# EAGLE library part PCM9211_PT_48 (library Texas Instruments)
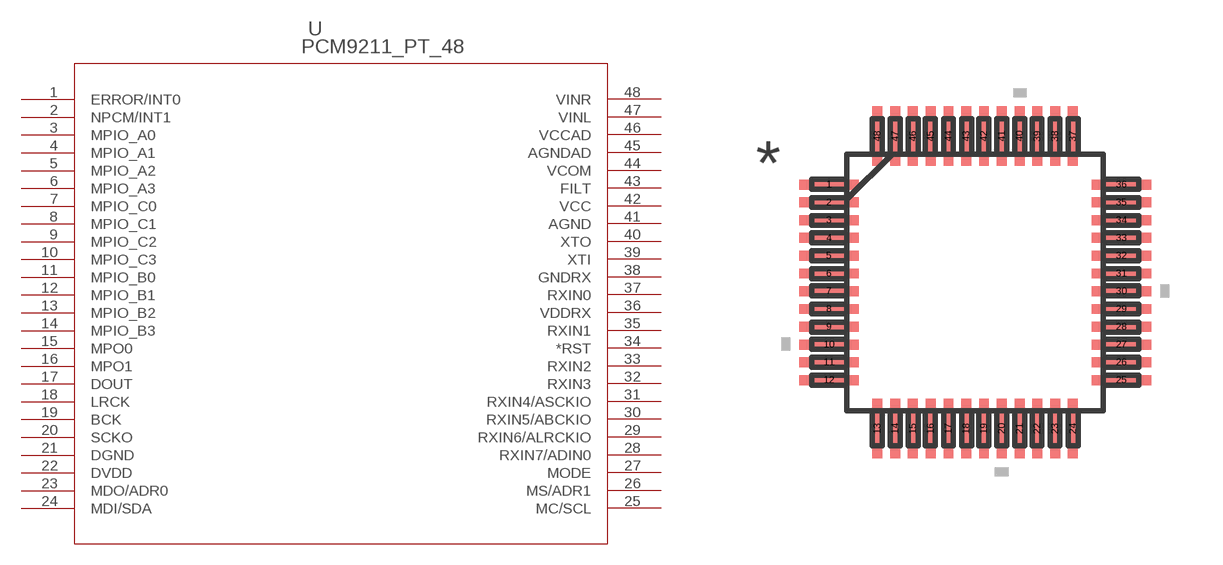
[diagram p12: symbol with the pads of PT48; footprint PT48]

Designator prefix U

## PCM9211_PT_48 (DATASHEETURL: http://www.ti.com/lit/gpn/PCM9211; DESCRIPTION: 216kHz Digital Audio Interface Transceiver (DIX) with Stereo ADC and Routing; FAMILY_NAME: DIGITAL AUDIO TRANSCEIVER; GENERIC_PART_NUMBER: PCM9211; INDUSTRY_STD_PKG_TYPE: LQFP; MANUFACTURER: Texas Instruments; MANUFACTURER_PART_NUMBER: pcm9211_pt_48; PACKAGE_DESIGNATOR: PT; PIN_COUNT: 48; VENDOR: Texas Instruments)  [PT48]
1  ERROR/INT0  out
2  NPCM/INT1  out
3  MPIO_A0
4  MPIO_A1
5  MPIO_A2
6  MPIO_A3
7  MPIO_C0
8  MPIO_C1
9  MPIO_C2
10  MPIO_C3
11  MPIO_B0
12  MPIO_B1
13  MPIO_B2
14  MPIO_B3
15  MPO0  out
16  MPO1  out
17  DOUT  out
18  LRCK  out
19  BCK  out
20  SCKO  out
21  DGND  pwr
22  DVDD  pwr
23  MDO/ADR0
24  MDI/SDA
25  MC/SCL  in
26  MS/ADR1  in
27  MODE  in
28  RXIN7/ADIN0  in
29  RXIN6/ALRCKIO  in
30  RXIN5/ABCKIO  in
31  RXIN4/ASCKIO  in
32  RXIN3  in
33  RXIN2  in
34  *RST  in
35  RXIN1  in
36  VDDRX  pwr
37  RXIN0  in
38  GNDRX  pwr
39  XTI  in
40  XTO  out
41  AGND  pwr
42  VCC  pwr
43  FILT  out
44  VCOM  out
45  AGNDAD  pwr
46  VCCAD  pwr
47  VINL  in
48  VINR  in

## Footprint PT48 (pad centres in mm)
smd 1.676 x 0.279: 1 -4.115,2.75; 2 -4.115,2.25; 3 -4.115,1.75; 4 -4.115,1.25; 5 -4.115,0.75; 6 -4.115,0.25; 7 -4.115,-0.25; 8 -4.115,-0.75; 9 -4.115,-1.25; 10 -4.115,-1.75; 11 -4.115,-2.25; 12 -4.115,-2.75; 25 4.115,-2.75; 26 4.115,-2.25; 27 4.115,-1.75; 28 4.115,-1.25; 29 4.115,-0.75; 30 4.115,-0.25; 31 4.115,0.25; 32 4.115,0.75; 33 4.115,1.25; 34 4.115,1.75; 35 4.115,2.25; 36 4.115,2.75
smd 0.279 x 1.676: 13 -2.75,-4.115; 14 -2.25,-4.115; 15 -1.75,-4.115; 16 -1.25,-4.115; 17 -0.75,-4.115; 18 -0.25,-4.115; 19 0.25,-4.115; 20 0.75,-4.115; 21 1.25,-4.115; 22 1.75,-4.115; 23 2.25,-4.115; 24 2.75,-4.115; 37 2.75,4.115; 38 2.25,4.115; 39 1.75,4.115; 40 1.25,4.115; 41 0.75,4.115; 42 0.25,4.115; 43 -0.25,4.115; 44 -0.75,4.115; 45 -1.25,4.115; 46 -1.75,4.115; 47 -2.25,4.115; 48 -2.75,4.115